# Altium footprint library Pasivos.PcbLib: 15 footprints
Each footprint in its own frame and in the unit in brackets; x right, y up, seen from the top. Pads: shape width x height; smd on the part's side, far side on the other; paste and mask are expansions set on the pad; w line width, h text height; cw(c..) or ccw(c..) is an arc to the next point about the centre after c.
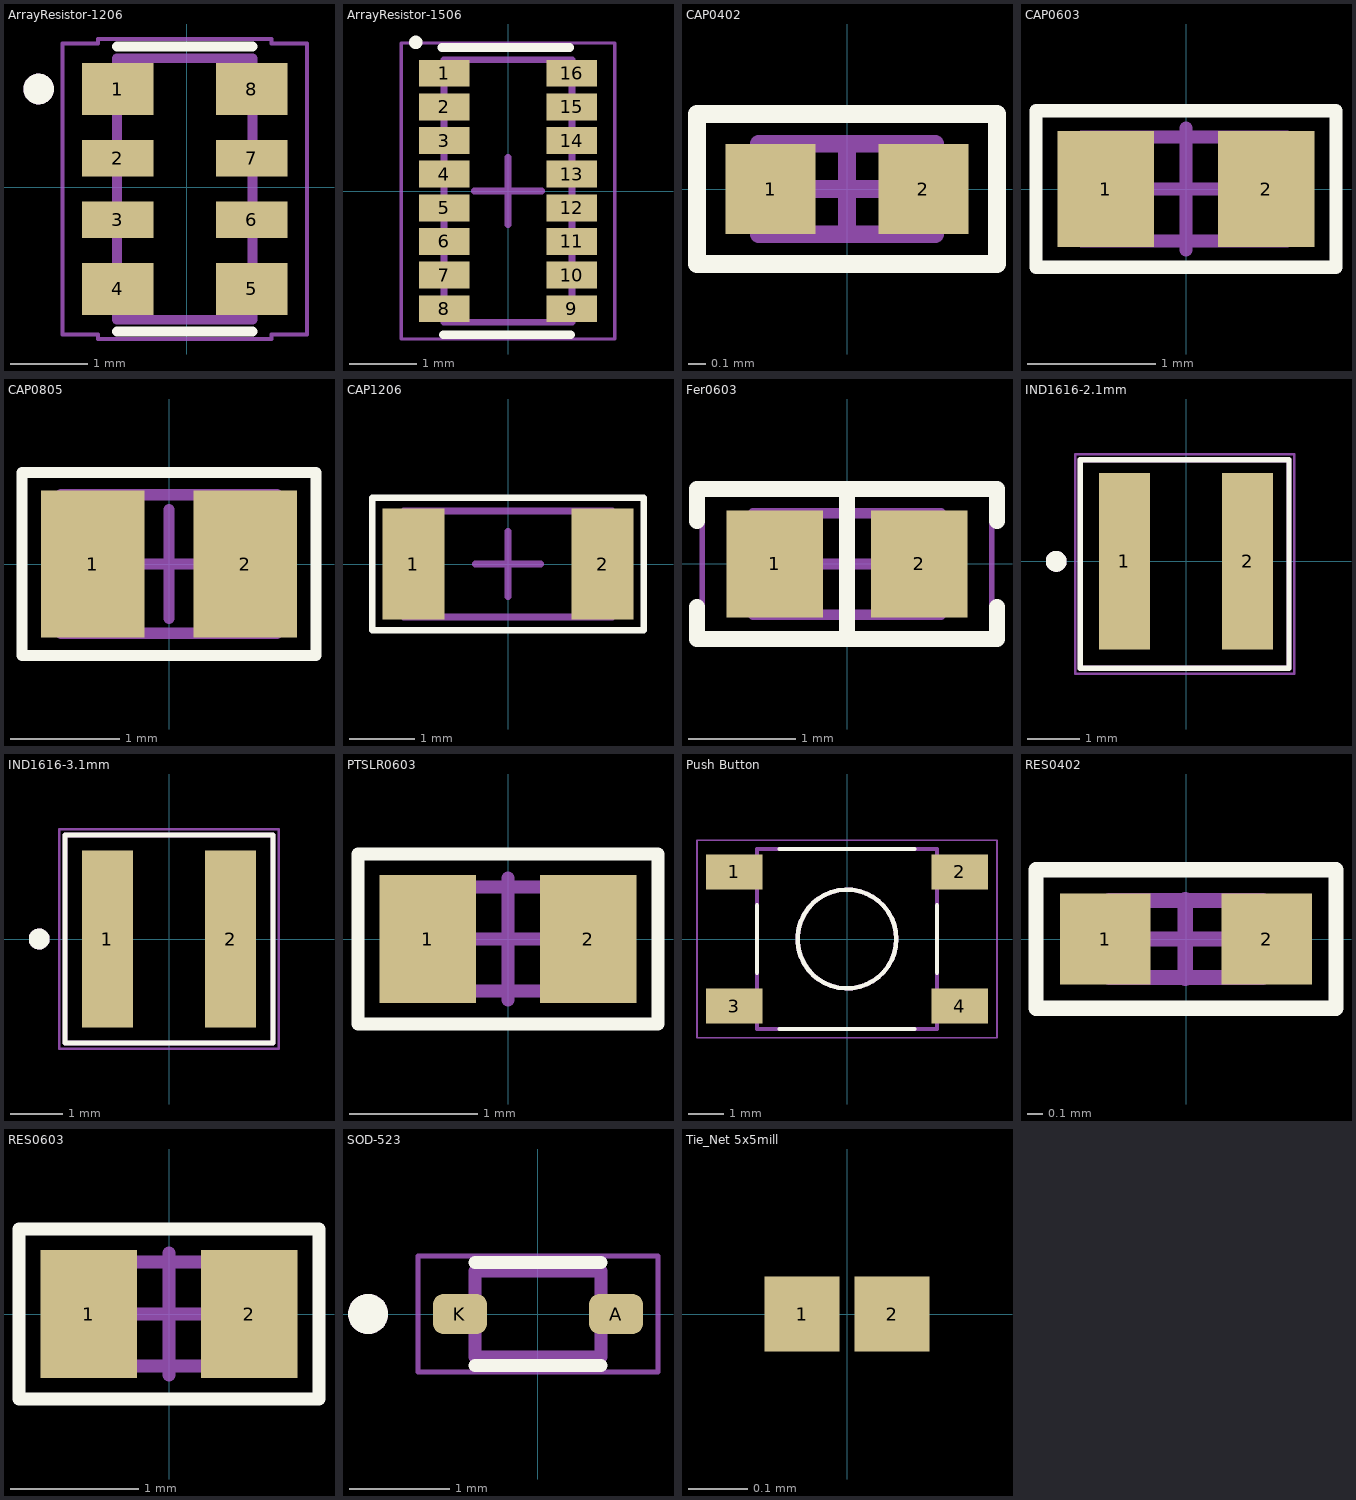
[diagram p0: the footprints below, top view; thin cyan lines are the x and y axes]

## ArrayResistor-1206 [mm]
pads (8):
  rect 0.93x0.68 smd: 1(-0.895,1.275) 4(-0.895,-1.325) 5(0.845,-1.325) 8(0.845,1.275)
  rect 0.93x0.48 smd: 2(-0.895,0.375) 3(-0.895,-0.425) 6(0.845,-0.425) 7(0.845,0.375)
Top Overlay:
  circle w0.2: c-1.925,1.275 r0.1
  lines w0.127: -0.905,-1.879 0.855,-1.879 ; -0.905,1.829 0.855,1.829
Mechanical 13:
  circle w0.2: c-1.925,1.275 r0.1
  lines w0.127: -0.905,-1.725 -0.905,1.675 0.855,1.675 0.855,-1.725 -0.905,-1.725
Mechanical 15:
  lines w0.051: -1.615,-1.915 -1.155,-1.915 -1.155,-1.975 1.105,-1.975 1.105,-1.915 1.565,-1.915 1.565,1.865 1.105,1.865 1.105,1.925 -1.155,1.925 -1.155,1.865 -1.615,1.865 -1.615,-1.915
3D body "EXB-1206.STEP": height 0.6, standoff 0, extent -0.825,-1.625 0.775,1.575

## ArrayResistor-1506 [mm]
pads (16):
  rect 0.75x0.4 smd: 1(-0.95,1.75) 2(-0.95,1.25) 3(-0.95,0.75) 4(-0.95,0.25) 5(-0.95,-0.25) 6(-0.95,-0.75) 7(-0.95,-1.25) 8(-0.95,-1.75) 9(0.95,-1.75) 10(0.95,-1.25) 11(0.95,-0.75) 12(0.95,-0.25) 13(0.95,0.25) 14(0.95,0.75) 15(0.95,1.25) 16(0.95,1.75)
Top Overlay:
  circle w0.1: c-1.372,2.21 r0.05
  lines w0.127: -0.986,2.134 0.914,2.134 ; -0.965,-2.134 0.935,-2.134
Mechanical 13:
  lines w0.1: -0.95,-1.95 -0.95,1.95 0.95,1.95 0.95,-1.95 -0.95,-1.95
Mechanical 15:
  lines w0.051: -1.585,-2.2 -1.585,2.2 1.585,2.2 1.585,-2.2 -1.585,-2.2
  lines w0.1: -0.5,0 0.5,0 ; 0,-0.5 0,0.5
3D body "EXB-2H.STEP": height 0.55, standoff 0, extent -0.8,-1.9 0.8,1.9

## CAP0402 [mm]
pads (2):
  rect 0.52x0.52 smd: 1(-0.44,0) 2(0.44,0)
Top Overlay:
  lines w0.102: -0.864,-0.432 -0.864,0.432 0.864,0.432 0.864,-0.432 -0.864,-0.432
Mechanical 13:
  lines w0.102: -0.508,-0.26 -0.508,0.26 0.508,0.26 0.508,-0.26 -0.508,-0.26
Mechanical 15:
  lines w0.051: -0.864,-0.432 0.864,-0.432 0.864,0.432 -0.864,0.432 -0.864,-0.432
  lines w0.102: -0.26,0 0.26,0 ; 0,-0.26 0,0.26
3D body "CAP 0402.STEP": height 0.52, standoff 0, extent -0.5,-0.262 0.5,0.262

## CAP0603 [mm]
pads (2):
  rect 0.75x0.9 smd: 1(-0.625,0) 2(0.625,0)
Top Overlay:
  lines w0.102: -1.168,-0.61 1.168,-0.61 1.168,0.61 -1.168,0.61 -1.168,-0.61
Mechanical 13:
  lines w0.102: -0.813,-0.406 0.787,-0.406 0.787,0.406 -0.813,0.406 -0.813,-0.406
Mechanical 15:
  lines w0.051: -1.168,-0.61 1.168,-0.61 1.168,0.61 -1.168,0.61 -1.168,-0.61
  lines w0.102: -0.475,0 0.475,0 ; 0,-0.475 0,0.475
3D body "CAP 0603.STEP": height 0.82, standoff 0, extent -0.8,-0.412 0.8,0.412

## CAP0805 [mm]
pads (2):
  rect 0.95x1.35 smd: 1(-0.7,0) 2(0.7,0)
Top Overlay:
  lines w0.102: -1.346,-0.838 1.346,-0.838 1.346,0.838 -1.346,0.838 -1.346,-0.838
Mechanical 13:
  lines w0.102: -0.991,-0.635 -0.991,0.635 0.991,0.635 0.991,-0.635 -0.991,-0.635
Mechanical 15:
  lines w0.051: -1.346,-0.838 -1.346,0.838 1.346,0.838 1.346,-0.838 -1.346,-0.838
  lines w0.102: -0.5,0 0.5,0 ; 0,-0.5 0,0.5
3D body "CAP 0805.STEP": height 1.27, standoff 0, extent -1,-0.637 1,0.637

## CAP1206 [mm]
pads (2):
  rect 0.95x1.7 smd: 1(-1.45,0) 2(1.45,0)
Top Overlay:
  lines w0.102: -2.083,-1.016 2.083,-1.016 2.083,1.016 -2.057,1.016 -2.083,1.016 -2.083,-1.016
Mechanical 13:
  lines w0.102: -1.6,-0.813 -1.6,0.813 1.6,0.813 1.6,-0.813 -1.6,-0.813
Mechanical 15:
  lines w0.051: -2.083,-1.016 2.083,-1.016 2.083,1.016 -2.083,1.016 -2.083,-1.016
  lines w0.102: -0.5,0 0.5,0 ; 0,-0.5 0,0.5
3D body "CAP 1206-0.8mm.STEP": height 0.8, standoff 0, extent -1.6,-0.8 1.6,0.8

## Fer0603 [mm]
pads (2):
  rect 0.9x1 smd: 1(-0.675,0) 2(0.675,0)
Top Overlay:
  lines w0.15: -1.4,-0.4 -1.4,-0.7 1.4,-0.7 1.4,-0.4 ; -1.4,0.4 -1.4,0.7 1.4,0.7 1.4,0.4 ; 0,-0.7 0,0.7
Mechanical 13:
  lines w0.1: -0.875,-0.475 0.875,-0.475 0.875,0.475 -0.875,0.475 -0.875,-0.475
Mechanical 15:
  lines w0.05: -1.35,-0.75 1.35,-0.75 1.35,0.75 -1.35,0.75 -1.35,-0.75
  lines w0.1: -0.475,0 0.475,0 ; 0,-0.475 0,0.475
3D body "FER 0603.STEP": height 0.82, standoff 0, extent -0.8,-0.412 0.8,0.412

## IND1616-2.1mm [mm]
pads (2):
  rect 0.98x3.4 smd: 1(-1.185,0) 2(1.185,0)
Top Overlay:
  circle w0.2: c-2.497,0 r0.1
  lines w0.102: -2.032,-2.057 -2.032,1.956 1.981,1.956 1.981,-2.057 -2.032,-2.057
Mechanical 13:
  circle w0.2: c-2.497,0 r0.1
  lines w0.102: -2.032,-2.057 1.981,-2.057 1.981,1.956 -2.032,1.956 -2.032,-2.057
Mechanical 15:
  lines w0.05: -2.134,-2.159 2.083,-2.159 2.083,2.057 -2.134,2.057 -2.134,-2.159
3D body "XFL4020.step": height 2.08, standoff 0, extent -2.019,-2.045 1.969,1.943

## IND1616-3.1mm [mm]
pads (2):
  rect 0.98x3.4 smd: 1(-1.185,0) 2(1.185,0)
Top Overlay:
  circle w0.2: c-2.497,0 r0.1
  lines w0.102: -2,-2 2,-2 2,2 -2,2 -2,-2
Mechanical 13:
  circle w0.2: c-2.497,0 r0.1
  lines w0.102: -2,-2 2,-2 2,2 -2,2 -2,-2
Mechanical 15:
  lines w0.05: -2.108,-2.108 2.108,-2.108 2.108,2.108 -2.108,2.108 -2.108,-2.108
3D body "XAL4030.STEP": height 3.04, standoff -0.06, extent -2,-2 2,2

## PTSLR0603 [mm]
pads (2):
  rect 0.75x1 smd: 1(-0.625,0) 2(0.625,0)
Top Overlay:
  lines w0.102: -1.168,-0.66 1.168,-0.66 1.168,0.66 -1.168,0.66 -1.168,-0.66
Mechanical 13:
  lines w0.102: -0.813,-0.406 -0.813,0.406 0.787,0.406 0.787,-0.406 -0.813,-0.406
Mechanical 15:
  lines w0.051: -1.168,-0.66 1.168,-0.66 1.168,0.66 -1.168,0.66 -1.168,-0.66
  lines w0.102: -0.475,0 0.475,0 ; 0,-0.475 0,0.475
3D body "RES 0603.STEP": height 0.45, standoff 0, extent -0.8,-0.394 0.8,0.406

## Push Button [mm]
pads (4):
  rect 1.6x1 smd: 1(-3.2,1.9) 2(3.2,1.9) 3(-3.2,-1.9) 4(3.2,-1.9)
Top Overlay:
  circle w0.127: c0,0 r1.4
  lines w0.127: -2.55,-0.956 -2.55,0.956 ; -1.913,-2.55 1.913,-2.55 ; -1.913,2.55 1.913,2.55 ; 2.55,-0.956 2.55,0.956
Mechanical 13:
  circle w0.127: c0,0 r1.4
  lines w0.127: -2.55,-2.55 2.55,-2.55 2.55,2.55 -2.55,2.55 -2.55,-2.55
Mechanical 15:
  lines w0.05: -4.25,-2.8 -4.25,2.8 4.25,2.8 4.25,-2.8 -4.25,-2.8
3D body "PTS526 SK15 SMTR2 LFS.STEP": height 1.6, standoff 0, extent -3.2,-2.55 3.2,2.55

## RES0402 [mm]
pads (2):
  rect 0.6x0.6 smd: 1(-0.533,0) 2(0.533,0)
Top Overlay:
  lines w0.102: -0.991,-0.457 -0.991,0.457 0.991,0.457 0.991,-0.457 -0.991,-0.457
Mechanical 13:
  lines w0.102: -0.508,-0.254 0.508,-0.254 0.508,0.254 -0.508,0.254 -0.508,-0.254
Mechanical 15:
  lines w0.051: -0.991,-0.457 0.991,-0.457 0.991,0.457 -0.991,0.457 -0.991,-0.457
  lines w0.102: -0.264,0 0.256,0 ; -0.004,-0.26 -0.004,0.26
3D body "RES 0402.STEP": height 0.35, standoff 0, extent -0.5,-0.246 0.5,0.254

## RES0603 [mm]
pads (2):
  rect 0.75x1 smd: 1(-0.625,0) 2(0.625,0)
Top Overlay:
  lines w0.102: -1.168,-0.66 1.168,-0.66 1.168,0.66 -1.168,0.66 -1.168,-0.66
Mechanical 13:
  lines w0.102: -0.813,-0.406 -0.813,0.406 0.787,0.406 0.787,-0.406 -0.813,-0.406
Mechanical 15:
  lines w0.051: -1.168,-0.66 1.168,-0.66 1.168,0.66 -1.168,0.66 -1.168,-0.66
  lines w0.102: -0.475,0 0.475,0 ; 0,-0.475 0,0.475
3D body "RES 0603.STEP": height 0.45, standoff 0, extent -0.8,-0.394 0.8,0.406

## SOD-523 [mm]
pads (2):
  rrect50% 0.54x0.4 smd: A(0.78,0) K(-0.78,0)
Top Overlay:
  circle w0.2: c-1.7,0 r0.1
  lines w0.127: -0.63,-0.515 0.63,-0.515 ; -0.63,0.515 0.63,0.515
Mechanical 13:
  circle w0.2: c-1.7,0 r0.1
  lines w0.127: -0.63,-0.43 -0.63,0.43 0.63,0.43 0.63,-0.43 -0.63,-0.43
Mechanical 15:
  lines w0.05: -1.2,-0.58 -1.2,0.58 1.2,0.58 1.2,-0.58 -1.2,-0.58
3D body "SOD-523.STEP": height 0.65, standoff 0, extent -0.8,-0.4 0.8,0.4

## Tie_Net 5x5mill [mil]
pads (2):
  rect 5x5 all layers, no hole mask+0: 1(-3,0) 2(3,0)
Multi-Layer:
  rectangle: -5.5,-2.5 5.5,2.5